# Altium integrated library 电机驱动.IntLib: 14 symbols
Pins are listed as number, name and electrical type; pins without a type are passive.

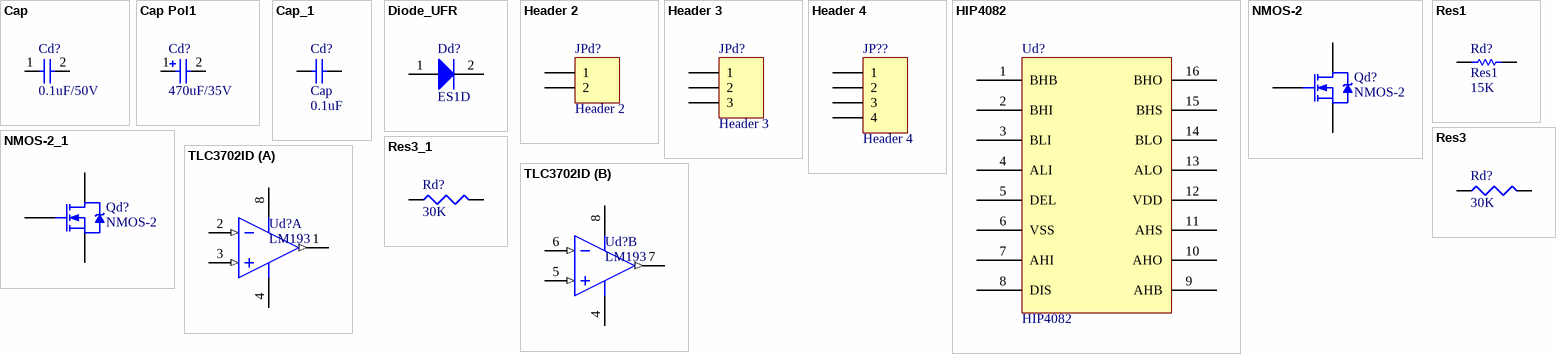
[diagram p0: symbols Cap to TLC3702ID]

## Cap
designator Cd?  value 0.1uF/50V  (hidden comment: Cap)
Capacitor; Manufacturer: Generic Components; Class: Passive; Published: 08/06/2000; Publisher: Altium Hobart Technology Centre; SubClass: Capacitor
simulation model CAP (Capacitor)
signal-integrity model Cap
footprint C3225-1210
footprint C3216-1206
footprint C1005-0402
footprint C2012-0805
footprint 1206
footprint 0805
footprint 1206
footprint CR2012-0805
pins: 1, 2

## Cap Pol1
designator Cd?  value 470uF/35V  (hidden comment: Cap Pol1)
Polarized Capacitor (Radial); Manufacturer: Generic Components; Class: Passive; Published: 08/06/2000; Publisher: Altium Hobart Technology Centre; SubClass: Capacitor
simulation model CAP (Capacitor)
signal-integrity model Cap Pol
footprint C3216-1206-TA-YX1
footprint C5252-L-YX1
footprint C6565-L-YX1
footprint C8383-L-YX1
footprint C6060-TA-YX1
footprint C103103-L-YX1
footprint C0.2TA
footprint C7343-TA-YX1
footprint C6035-TA-YX1
footprint C0.1LSMD-YX1
footprint C0.2LSMD-YX1
footprint C0.3L-yx1
footprint C1000
pins: 1, 2

## Cap_1
designator Cd?, comment Cap  value 0.1uF
Capacitor; Published: 8-Jun-2000; LatestRevisionDate: 17-Jul-2002; LatestRevisionNote: Re-released for DXP Platform.; Publisher: Altium Limited
footprint RAD-0.3 (Capacitor; 2 Leads)
footprint CAPR2.54-5.1x3.2 (Capacitor, Ceramic, Thru-Hole, Dipped Radial; Body 5.1 x 3.2 mm (WxT) Pin Spacing 2.54 mm (typ))
footprint CAPR5.08-7.8x3.2 (Capacitor, Ceramic, Thru-Hole, Dipped Radial; Body 7.8 x 3.2 mm (WxT) Pin Spacing 5.08 mm (typ))
simulation model CAP (Capacitor)
signal-integrity model Cap
footprint 0805
footprint CR2012-0805
pins: 1, 2

## Diode_UFR
designator Dd?  value ES1D  (hidden comment: Diode_UFR)
Ultra-Fast Rectifier Diode; Manufacturer: Generic Components; Class: Discrete; SubClass: Diode - Switching; Published: 08/06/2000; Publisher: Altium Hobart Technology Centre
footprint DSO-C2/X3.3 (DO-214AB)
simulation model DIODE (Diode)
signal-integrity model Diode
footprint DIODE SMC
footprint DIODE-SMC-YX1
footprint DIODE-SMC-YX2
footprint DIODE0.4-YX1
footprint DIODE-SMC-YX3
footprint DIODE-SMC-YX4
footprint DO-214-SMA-YX1 (DSO-C2/G1.6-DO-214-AC/SMA; 2 C-Bend Leads; Body 5.3 x 2.6 mm, inc. leads (LxW))
footprint DO-214-SMB-YX1 (DSO-C2/X2.3-DO-214-AA/SMB; 2 C-Bend Leads; Body 5.3 x 3.6 mm, inc. leads (LxW))
footprint DO-214-SMC-YX1 (DSO-C2/X3.3-DO-214-AB/SMC; 2 C-Bend Leads; Body 7.9 x 5.9 mm, inc. leads (LxW))
footprint D11 (A20)
footprint D10
footprint DL-35
footprint DO-214-SMA-YX1
pins: 1 A, 2 K

## Header 2
designator JPd?
Header, 2-Pin; Revision: 17-Jul-2002: Re-released for DXP Platform.; Publisher: Altium Limited
footprint HDR1X2 (Connector; Header; 2 Position)
signal-integrity model Connector
footprint CON_X2_B
pins: 1, 2

## Header 3
designator JPd?
Header, 3-Pin; Revision: 17-Jul-2002: Re-released for DXP Platform.; Publisher: Altium Limited
footprint HDR1X3 (Connector; Header; 3 Position)
signal-integrity model Connector
footprint KG_3
pins: 1, 2, 3

## Header 4
designator JP??
Header, 4-Pin; Revision: 17-Jul-2002: Re-released for DXP Platform.; Publisher: Altium Limited
footprint HDR1X4 (Connector; Header; 4 Position)
signal-integrity model Connector
pins: 1, 2, 3, 4

## HIP4082
designator Ud?
footprint sop16
pins: 1 BHB, 2 BHI, 3 BLI, 4 ALI, 5 DEL, 6 VSS, 7 AHI, 8 DIS, 9 AHB, 10 AHO, 11 AHS, 12 VDD, 13 ALO, 14 BLO, 15 BHS, 16 BHO

## NMOS-2
designator Qd?
N-Channel Power MOSFET; Note: Pin 2 is electrically connected to pin 4.; Published: 8-Jun-2000; LatestRevisionDate: 17-Jul-2002; LatestRevisionNote: Re-released for DXP Platform.; DatasheetDocument: PD-9.814; PackageReference: TO-220AB; Publisher: Altium Limited; Code_JEDEC: TO-220-AB
footprint DSO-G3/X1.1
footprint 252
footprint 252
pins: 1 G, 2 D, 3 S
2 alternate drawings of the same symbol

## NMOS-2_1
designator Qd?, comment NMOS-2
N-Channel Power MOSFET; Note: Pin 2 is electrically connected to pin 4.; Published: 8-Jun-2000; LatestRevisionDate: 17-Jul-2002; LatestRevisionNote: Re-released for DXP Platform.; DatasheetDocument: PD-9.814; PackageReference: TO-220AB; Publisher: Altium Limited; Code_JEDEC: TO-220-AB
footprint DSO-G3/X1.1
footprint 252
pins: 1 G, 2 D, 3 S
2 alternate drawings of the same symbol

## Res1
designator Rd?  value 15K
Resistor; Published: 8-Jun-2000; LatestRevisionDate: 17-Jul-2002; LatestRevisionNote: Re-released for DXP Platform.; Publisher: Altium Limited
footprint AXIAL-0.3 (Resistor; 2 Leads)
simulation model RESISTOR (Resistor)
signal-integrity model Res
footprint 0805
footprint CR2012-0805
pins: 1, 2

## Res3
designator Rd?  value 30K  (hidden comment: Res3)
Resistor; Published: 8-Jun-2000; Revision: July-2002: Re-released for DXP Platform.; Publisher: Altium Limited
footprint C1608-0603 (Resistor; 2 Leads)
simulation model RESISTOR (Resistor)
signal-integrity model Res
footprint CR3225-1210
footprint CR5025-2010
footprint CR6332-2512
footprint 0805
footprint CR2012-0805
pins: 1, 2
1 alternate drawing of the same symbol

## Res3_1
designator Rd?, comment value 30K  (hidden comment: Res3)
Resistor; Published: 8-Jun-2000; Revision: July-2002: Re-released for DXP Platform.; Publisher: Altium Limited
footprint C1608-0603 (Resistor; 2 Leads)
simulation model RESISTOR (Resistor)
signal-integrity model Res
footprint CR3225-1210
footprint CR5025-2010
footprint CR6332-2512
footprint 0805
footprint CR3225-1210
pins: 1, 2
1 alternate drawing of the same symbol

## TLC3702ID
designator Ud?, comment LM193
Dual Micropower LinCMOS Voltage Comparator; Package Information: Latest Revision: Jan-1998; Published: 23-Sep-2002; Datasheet: Latest Revision: Nov-1998; Package Reference: D008; Publisher: Altium Limited
footprint D008 (Small Outline; 8 Leads; Body Width 3.9 mm; Pitch 1.27 mm)
simulation model TLC3702 (SUBCKT)
footprint SO-8
pins on every part: 4 GND (power), 8 V+ (power)
part A pins: 1 OUT (out), 2 IN- (in), 3 IN+ (in)
part B pins: 5 IN+ (in), 6 IN- (in), 7 OUT (out)